# Altium schematic symbol library Motor.SchLib: 3 symbols
Pins are listed as number, name and electrical type; pins without a type are passive.

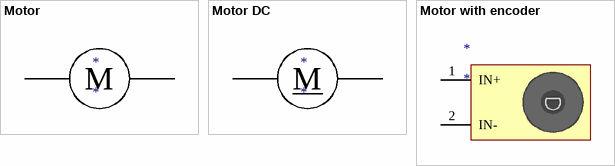
[diagram p0: symbols Motor to Motor with encoder]

## Motor
designator *
pins: 1, 2
text: M

## Motor DC
designator *
pins: 1, 2
text: M

## Motor with encoder
designator *
pins: 1 IN+, 2 IN-